# Altium schematic symbol library VOM.SCHLIB: 34 symbols
Pins are listed as number, name and electrical type; pins without a type are passive.

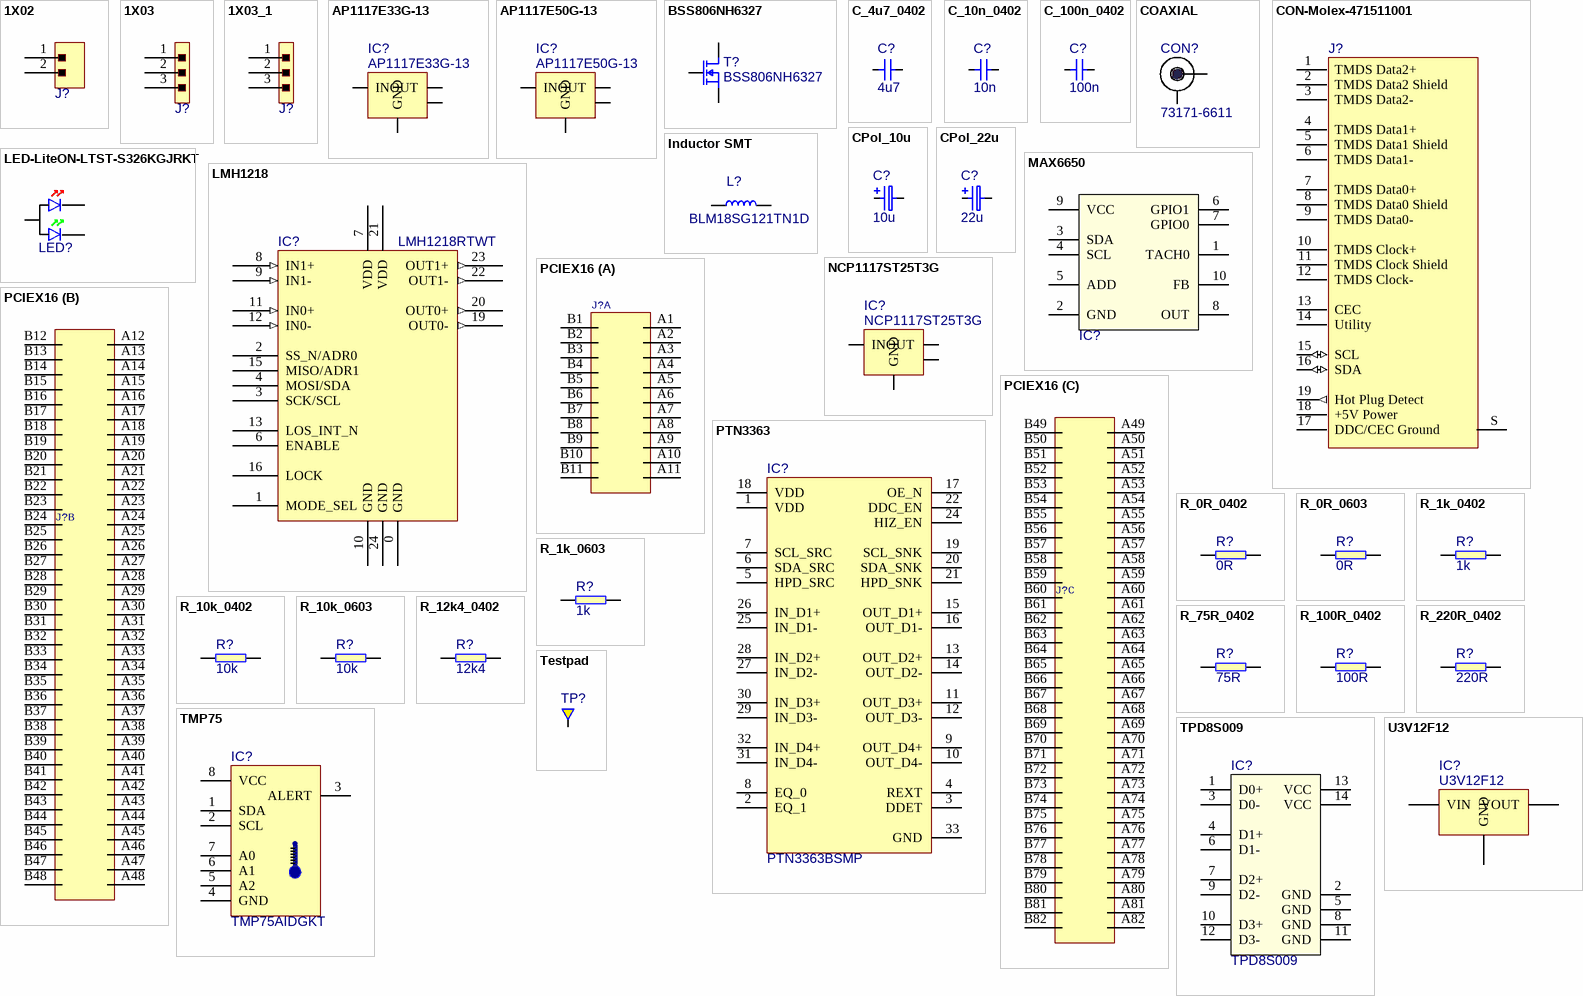
[diagram p0: symbols 1X02 to U3V12F12]

## 1X02
designator J?, comment MH_1X02_2.54  (value not drawn)
Male header, 1 x 02 pins, pitch 2.54 mm; Manufacturer: MULTICOMP; Part Symbol: 2211S-02G; Part Number: MH_1X02_2.54; Value: MH_1X02_2.54
footprint MH_1X02_2.54
pins: 1, 2

## 1X03
designator J?, comment Molex 022232031  (value not drawn)
Part Number: molex_2223-2031; Value: Molex 022232031; Manufacturer: Molex; Part Symbol: 22-23-2031
footprint molex_2223-2031
pins: 1, 2, 3

## 1X03_1
designator J?, comment MH_1X03_2.54  (value not drawn)
Male header, 1 x 03 pins, pitch 2.54 mm; Manufacturer: HARWIN; Part Symbol: M20-9990345.; Part Number: MH_1X03_2.54; Value: MH_1X03_2.54
footprint MH_1X03_2.54
pins: 1, 2, 3

## AP1117E33G-13
designator IC?
IC, LDO, REG, 3.3V, SOT223; Manufacturer: DIODES INC.; Part Number: AP1117E33G-13; Part Symbol: AP1117E33G-13; Value: AP1117E33G-13
footprint SOT223
pins: 1 GND (power), 2 OUT, 3 IN (power), 4 OUT

## AP1117E50G-13
designator IC?
IC, LDO, REG, 5.0V, SOT223; Manufacturer: DIODES INC.; Part Number: AP1117E50G-13; Part Symbol: AP1117E50G-13; Value: AP1117E50G-13
footprint SOT223
pins: 1 GND (power), 2 OUT, 3 IN (power), 4 OUT

## BSS806NH6327
designator T?
MOSFET, BRT, N CH, 2.3 A, 20 V, 0.041 ohm, 2.5 V, 550 mV; Manufacturer: INFINEON; Part Symbol: BSS806NH6327XTSA1; Value: BSS806NH6327; Part Number: BSS806NH6327
footprint SOT-23 (SOT23, 3-Leads, Body 2.90x2.45mm, Pitch 0.95mm, IPC Medium Density)
pins: 1 G, 2 S, 3 D

## C_4u7_0402
designator C?, comment 4u7
MLCC SMT Capacitor 0402; Part Number: C_4u7_0402; Manufacturer: MURATA; Part Symbol: GRM155R60G475ME; Value: 4u7
footprint 0402
pins: 1, 2
1 alternate drawing of the same symbol

## C_10n_0402
designator C?, comment 10n
MLCC SMT Capacitor 0402; Part Number: C_10n_0402; Manufacturer: AVX; Part Symbol: 04025G103ZAT2A; Value: 10n
footprint 0402
pins: 1, 2
1 alternate drawing of the same symbol

## C_100n_0402
designator C?, comment 100n
MLCC SMT Capacitor 0402; Part Number: C_100n_0402; Manufacturer: MULTICOMP; Part Symbol: MC0402X104M100CT; Value: 100n
footprint 0402
pins: 1, 2
1 alternate drawing of the same symbol

## COAXIAL
designator CON?, comment 73171-6611
Part Number: MOLEX_BNC_73171-6611; Manufacturer: MOLEX; Part Symbol: 73171-6611; Value: 73171-6611
footprint MOLEX_BNC_73171-6611
pins: 1, S

## CON-Molex-471511001
designator J?
Header right angle HDMI; Part Number: CON-Molex-471511001; Manufacturer: MOLEX; Value: 47151-1001; Part Symbol: 47151-1001
footprint Molex_HDMI_471511001
pins: 1 TMDS Data2+, 2 TMDS Data2 Shield, 3 TMDS Data2-, 4 TMDS Data1+, 5 TMDS Data1 Shield, 6 TMDS Data1-, 7 TMDS Data0+, 8 TMDS Data0 Shield, 9 TMDS Data0-, 10 TMDS Clock+, 11 TMDS Clock Shield, 12 TMDS Clock-, 13 CEC, 14 Utility, 15 SCL (io), 16 SDA (io), 17 DDC/CEC Ground (power), 18 +5V Power (power), 19 Hot Plug Detect (out), S SH

## CPol_10u
designator C?, comment 10u
Tantalum SMT Capacitor 10uF Case KEMET_C; Part Number: C_10u_KEMET_C; Manufacturer: KEMET; Part Symbol: T491C106K025AT; Value: 10u
footprint KEMET_C
pins: 1, 2
1 alternate drawing of the same symbol

## CPol_22u
designator C?, comment 22u
Tantalum SMT Capacitor 22uF Case KEMET_C; Part Number: C_22u_KEMET_C; Manufacturer: KEMET; Part Symbol: T491C226K025AT; Value: 22u
footprint KEMET_C
pins: 1, 2
1 alternate drawing of the same symbol

## Inductor SMT
designator L?, comment BLM18SG121TN1D
FERRITE BEAD, 0.025OHM, 3A, 0603; Manufacturer: MURATA; Part Number: BLM18SG121TN1D; Value: BLM18SG121TN1D; Part Symbol: BLM18SG121TN1D
footprint 0603
pins: 1, 2

## LED-LiteON-LTST-S326KGJRKT
designator LED?  (value not drawn)
Standard LEDs - SMD Green/Red Clear 571nm/631nm; Manufacturer: Lite-On; Part Number: LED-LiteON-LTST-S326KGJRKT; Value: LED-LiteON-LTST-S326KGJRKT; Part Symbol: LTST-S326KGJRKT
footprint LED-LiteON-LTST-S326KGJRKT
pins: A, C1, C2

## LMH1218
designator IC?, comment LMH1218RTWT
Low Power Ultra HD Cable Driver with Integrated Reclocker; Manufacturer: TEXAS INSTRUMENTS; Part Number: LMH1218RTWT; Part Symbol: LMH1218RTWT; Value: LMH1218RTWT
footprint WQFN-24
pins: 0 GND, 1 MODE_SEL, 2 SS_N/ADR0, 3 SCK/SCL, 4 MOSI/SDA, 6 ENABLE, 7 VDD, 8 IN1+ (in), 9 IN1- (in), 10 GND, 11 IN0+ (in), 12 IN0- (in), 13 LOS_INT_N, 15 MISO/ADR1, 16 LOCK, 19 OUT0- (out), 20 OUT0+ (out), 21 VDD, 22 OUT1- (out), 23 OUT1+ (out), 24 GND

## MAX6650
designator IC?, comment MAX6650EUB+  (value not drawn)
Fan-Speed Regulator and Monitor with SMBus/I2C-Compatible Interface; Manufacturer: MAXIM INTEGRATED; Part Number: MAX6650EUB+; Value: MAX6650EUB+; Part Symbol: MAX6650EUB+
footprint uMAX10
pins: 1 TACH0, 2 GND, 3 SDA, 4 SCL, 5 ADD, 6 GPIO1, 7 GPIO0, 8 OUT, 9 VCC, 10 FB
1 alternate drawing of the same symbol

## NCP1117ST25T3G
designator IC?
IC, LDO, REG, 2.5V, SOT223; Manufacturer: ON Semiconductor; Part Number: NCP1117ST25T3G; Part Symbol: NCP1117ST25T3G; Value: NCP1117ST25T3G
footprint SOT223
pins: 1 GND (power), 2 OUT, 3 IN (power), 4 OUT

## PCIEX16
designator J?
PCB Only; Part Number: PCIEX16; Manufacturer: PCB ONLY; Part Symbol: PCB ONLY
footprint PCIEX16
part A pins: A1, A2, A3, A4, A5, A6, A7, A8, A9, A10, A11, B1, B2, B3, B4, B5, B6, B7, B8, B9, B10, B11
part B pins: A12, A13, A14, A15, A16, A17, A18, A19, A20, A21, A22, A23, A24, A25, A26, A27, A28, A29, A30, A31, A32, A33, A34, A35, A36, A37, A38, A39, A40, A41, A42, A43, A44, A45, A46, A47, A48, B12, B13, B14, B15, B16, B17, B18, B19, B20, B21, B22, B23, B24, B25, B26, B27, B28, B29, B30, B31, B32, B33, B34, B35, B36, B37, B38, B39, B40, B41, B42, B43, B44, B45, B46, B47, B48
part C pins: A49, A50, A51, A52, A53, A54, A55, A56, A57, A58, A59, A60, A61, A62, A63, A64, A65, A66, A67, A68, A69, A70, A71, A72, A73, A74, A75, A76, A77, A78, A79, A80, A81, A82, B49, B50, B51, B52, B53, B54, B55, B56, B57, B58, B59, B60, B61, B62, B63, B64, B65, B66, B67, B68, B69, B70, B71, B72, B73, B74, B75, B76, B77, B78, B79, B80, B81, B82

## PTN3363
designator IC?, comment PTN3363BSMP
HDMI level shifter; Manufacturer: NXP; Part Number: PTN3363BSMP; Value: PTN3363BSMP; Part Symbol: PTN3363BSMP
footprint QFN-32
pins: 1 VDD, 2 EQ_1, 3 DDET, 4 REXT, 5 HPD_SRC, 6 SDA_SRC, 7 SCL_SRC, 8 EQ_0, 9 OUT_D4+, 10 OUT_D4-, 11 OUT_D3+, 12 OUT_D3-, 13 OUT_D2+, 14 OUT_D2-, 15 OUT_D1+, 16 OUT_D1-, 17 OE_N, 18 VDD, 19 SCL_SNK, 20 SDA_SNK, 21 HPD_SNK, 22 DDC_EN, 24 HIZ_EN, 25 IN_D1-, 26 IN_D1+, 27 IN_D2-, 28 IN_D2+, 29 IN_D3-, 30 IN_D3+, 31 IN_D4-, 32 IN_D4+, 33 GND

## R_0R_0402
designator R?, comment 0R
SMT Resistor 0402; Part Number: R_0R_0402; Manufacturer: MULTICOMP; Part Symbol: MCMR04X000 PTL; Value: 0R
footprint 0402
pins: 1, 2

## R_0R_0603
designator R?, comment 0R
SMT Resistor 0R 0603; Part Number: R_0R_0603; Manufacturer: BOURNS; Part Symbol: CR0603-J/-000ELF; Value: 0R
footprint 0603
pins: 1, 2

## R_1k_0402
designator R?, comment 1k
SMT Resistor 0402; Part Number: R_1k_0402; Manufacturer: MULTICOMP; Part Symbol: MCMR04X1001FTL; Value: 1k
footprint 0402
pins: 1, 2

## R_1k_0603
designator R?, comment 1k
SMT Resistor 0R 0603; Part Number: R_1k_0603; Manufacturer: BOURNS; Part Symbol: CR0603-JW-102ELF; Value: 1k
footprint 0603
pins: 1, 2

## R_10k_0402
designator R?, comment 10k
SMT Resistor 0402; Part Number: R_10k_0402; Manufacturer: MULTICOMP; Part Symbol: MCMR04X1002FTL; Value: 10k
footprint 0402
pins: 1, 2

## R_10k_0603
designator R?, comment 10k
SMT Resistor 0R 0603; Part Number: R_10k_0603; Manufacturer: BOURNS; Part Symbol: CR0603-JW-103ELF; Value: 10k
footprint 0603
pins: 1, 2

## R_12k4_0402
designator R?, comment 12k4
SMT Resistor 0402; Part Number: R_12k4_0402; Manufacturer: MULTICOMP; Part Symbol: MC00625W0402112K4; Value: 12k4
footprint 0402
pins: 1, 2

## R_75R_0402
designator R?, comment 75R
SMT Resistor 0402; Part Number: R_75R_0402; Manufacturer: YAGEO(PHYCOMP); Part Symbol: RC0402FR-0775RL; Value: 75R
footprint 0402
pins: 1, 2

## R_100R_0402
designator R?, comment 100R
SMT Resistor 0402; Part Number: R_100R_0402; Manufacturer: BOURNS; Part Symbol: CR0402-FX-1000GLF; Value: 100R
footprint 0402
pins: 1, 2

## R_220R_0402
designator R?, comment 220R
SMT Resistor 0402; Part Number: R_220R_0402; Manufacturer: TE CONNECTIVITY; Part Symbol: CRG0402J220R; Value: 220R
footprint 0402
pins: 1, 2

## Testpad
designator TP?  (value not drawn)  (no BOM)
Testpad 2mm diameter; Manufacturer: PCB ONLY; Part Number: Testpad; Part Symbol: PCB ONLY
footprint Testpad
pins: 1

## TMP75
designator IC?, comment TMP75AIDGKT
Temperature Sensor With I2C and SMBus Interface in Industry Standard LM75; Manufacturer: TEXAS INSTRUMENTS; Part Number: TMP75AIDGKT; Value: TMP75AIDGKT; Part Symbol: TMP75AIDGKT
footprint MSOP-8
pins: 1 SDA, 2 SCL, 3 ALERT, 4 GND, 5 A2, 6 A1, 7 A0, 8 VCC

## TPD8S009
designator IC?
8-Channel ESD Protection for DisplayPort and HDMI; Manufacturer: TEXAS INSTRUMENTS; Part Symbol: TPD8S009DSMR; Part Number: TPD8S009; Value: TPD8S009
footprint SON-15
pins: 1 D0+, 2 GND, 3 D0-, 4 D1+, 5 GND, 6 D1-, 7 D2+, 8 GND, 9 D2-, 10 D3+, 11 GND, 12 D3-, 13 VCC, 14 VCC
1 alternate drawing of the same symbol

## U3V12F12
designator IC?
Pololu 9V Step-Up Voltage Regulator; Manufacturer: TME; Part Symbol: POLOLU-2117 / POLOLU-2117; Part Number: U3V12F12; Value: U3V12F12
footprint U3V12Fxx
pins: 1 VIN (power), 2 GND (power), 3 VOUT (power)